# EAGLE library part SN74LVC2G241 (library FSAE Electric (Alexander Ray's conflicted copy 2016-04-02))
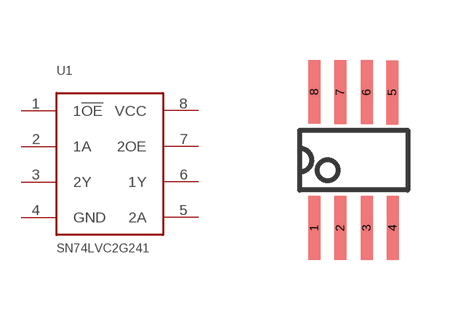
[diagram p72: symbol with the pads of VFSOP-8; footprint VFSOP-8]

Designator prefix U1

## SN74LVC2G241 (PARTNO: SN74LVC2G241DCUR)  [VFSOP-8]
1  1!OE
2  1A
3  2Y
4  GND
5  2A
6  1Y
7  2OE
8  VCC

## Footprint VFSOP-8 (pad centres in mm)
smd 0.3 x 1.6: 1 -0.98,-1.7; 2 -0.33,-1.7; 3 0.33,-1.7; 4 0.98,-1.7; 5 0.97,1.69; 6 0.325,1.7; 7 -0.33,1.7; 8 -0.98,1.71